# Altium footprint library CanNode.PcbLib: 6 footprints
Each footprint in its own frame and in the unit in brackets; x right, y up, seen from the top. Pads: shape width x height; smd on the part's side, far side on the other; paste and mask are expansions set on the pad; w line width, h text height; cw(c..) or ccw(c..) is an arc to the next point about the centre after c.
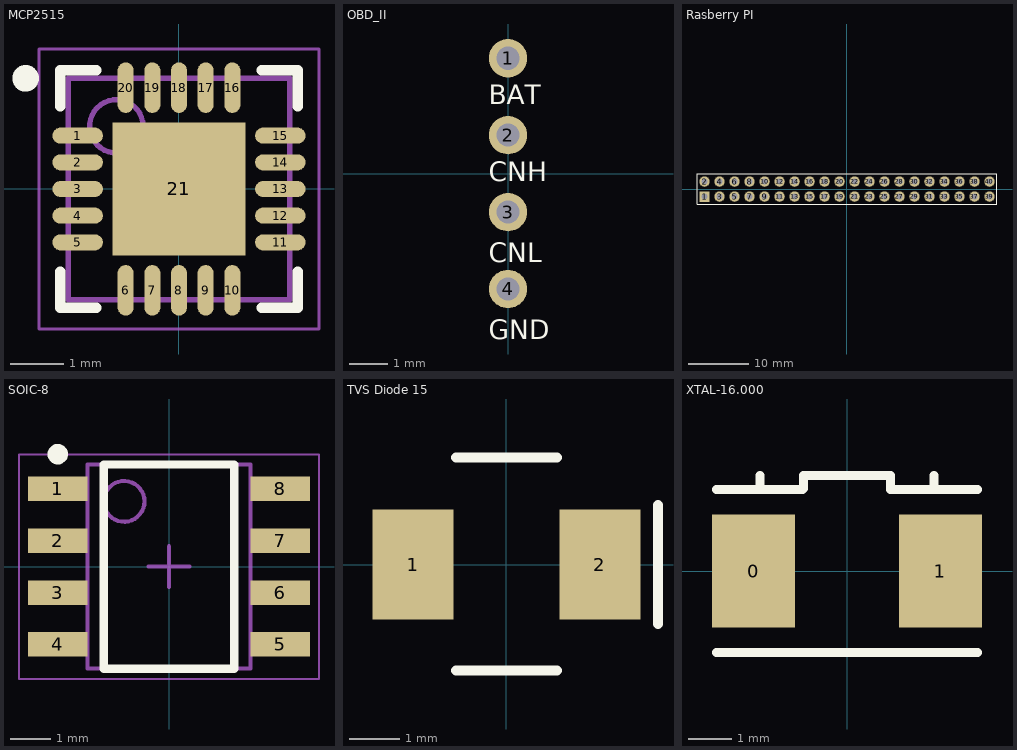
[diagram p0: the footprints below, top view; thin cyan lines are the x and y axes]

## MCP2515 [mm] "IC CAN CTLR W/SPI 2.0B 20-QFN"
height 1
pads (21):
  oval 0.95x0.3 smd: 1(-1.9,1) 2(-1.9,0.5) 3(-1.9,0) 4(-1.9,-0.5) 5(-1.9,-1) 11(1.9,-1) 12(1.9,-0.5) 13(1.9,0) 14(1.9,0.5) 15(1.9,1)
  oval 0.3x0.95 smd: 6(-1,-1.9) 7(-0.5,-1.9) 8(0,-1.9) 9(0.5,-1.9) 10(1,-1.9) 16(1,1.9) 17(0.5,1.9) 18(0,1.9) 19(-0.5,1.9) 20(-1,1.9)
  rect 2.5x2.5 smd: 21(0,0)
Top Overlay:
  circle w0.25: c-2.875,2.075 r0.125
  lines w0.2: -2.225,-1.55 -2.225,-2.225 -1.55,-2.225 ; -2.225,1.55 -2.225,2.225 -1.55,2.225 ; 1.55,-2.225 2.225,-2.225 2.225,-1.55 ; 1.55,2.225 2.225,2.225 2.225,1.55
Mechanical 13:
  circle w0.1: c-1.175,1.175 r0.5
  lines w0.1: -2.075,-2.075 -2.075,2.075 2.075,2.075 2.075,-2.075 -2.075,-2.075
Mechanical 15:
  lines w0.05: -2.625,-2.625 -2.625,2.625 2.625,2.625 2.625,-2.625 -2.625,-2.625
  lines w0.1: -0.5,0 0.5,0 ; 0,-0.5 0,0.5
3D body "MCP2515.step": height 1, standoff 0, extent -2.125,-2.125 2.125,2.125

## OBD_II [mm]
pads (4):
  round 1 hole 0.6: 1(0,3) 2(0,1) 3(0,-1) 4(0,-3)
Top Overlay:
  text "GND" at -0.5,-4.3 h0.5
  text "CNH" at -0.5,-0.2 h0.5
  text "CNL" at -0.5,-2.3 h0.5
  text "BAT" at -0.5,1.8 h0.5

## Rasberry PI [mm] "Rasberry PI footprint"
pads (40):
  rect 1.75x1.75 hole 1: 1(-23.75,-1.25)
  round 1.75 hole 1: 2(-23.75,1.25) 3(-21.25,-1.25) 4(-21.25,1.25) 5(-18.75,-1.25) 6(-18.75,1.25) 7(-16.25,-1.25) 8(-16.25,1.25) 9(-13.75,-1.25) 10(-13.75,1.25) 11(-11.25,-1.25) 12(-11.25,1.25) 13(-8.75,-1.25) 14(-8.75,1.25) 15(-6.25,-1.25) 16(-6.25,1.25) 17(-3.75,-1.25) 18(-3.75,1.25) 19(-1.25,-1.25) 20(-1.25,1.25) 21(1.25,-1.25) 22(1.25,1.25) 23(3.75,-1.25) 24(3.75,1.25) 25(6.25,-1.25) 26(6.25,1.25) 27(8.75,-1.25) 28(8.75,1.25) 29(11.25,-1.25) 30(11.25,1.25) 31(13.75,-1.25) 32(13.75,1.25) 33(16.25,-1.25) 34(16.25,1.25) 35(18.75,-1.25) 36(18.75,1.25) 37(21.25,-1.25) 38(21.25,1.25) 39(23.75,-1.25) 40(23.75,1.25)
Top Overlay:
  lines w0.203: -25,-2.5 25,-2.5 25,2.5 -25,2.5 -25,-2.5

## SOIC-8 [mm] "DMP3037LSS"
height 1.75
pads (8):
  rect 1.45x0.6 smd: 1(-2.725,1.905) 2(-2.725,0.635) 3(-2.725,-0.635) 4(-2.725,-1.905) 5(2.725,-1.905) 6(2.725,-0.635) 7(2.725,0.635) 8(2.725,1.905)
Top Overlay:
  circle w0.25: c-2.725,2.755 r0.125
  lines w0.2: -1.6,-2.5 -1.6,2.5 1.6,2.5 1.6,-2.5 -1.6,-2.5
Mechanical 13:
  circle w0.1: c-1.1,1.6 r0.5
  lines w0.1: -2,-2.5 -2,2.5 2,2.5 2,-2.5 -2,-2.5
Mechanical 15:
  lines w0.05: -3.675,-2.75 -3.675,2.75 3.675,2.75 3.675,-2.75 -3.675,-2.75
  lines w0.1: -0.5,0 0.5,0 ; 0,-0.5 0,0.5
3D body "PowerMosfet.step": height 1.75, standoff 0, extent -3,-2.5 3,2.5

## TVS Diode 15 [mm]
pads (2):
  rect 1.6x2.18 smd: 1(-1.85,0) 2(1.85,0)
Top Overlay:
  lines w0.2: -1,-2.1 1,-2.1 ; -1,2.125 1,2.125 ; 3,-1.175 3,1.175
3D body: height 2.4, standoff 0.05, extent -2.3,-1.975 2.3,1.975

## XTAL-16.000 [mm]
pads (2):
  rect 1.9x2.6 smd: 0(-2.15,0) 1(2.15,0)
Top Overlay:
  lines w0.2: -3,-1.875 3,-1.875 ; -3,1.875 -1.025,1.875 -1,1.9 -1,2.2 1,2.2 1,1.875 3,1.875 ; -2,1.875 -2,2.2 ; 2,1.9 2,2.2
3D body "ABM7.STEP": height 1.4, standoff 0, extent -2.997,-1.752 2.997,1.753